# Altium footprint library CN_IDC.PcbLib: 43 footprints (part 2 of 3)
Each footprint in its own frame and in the unit in brackets; x right, y up, seen from the top. Pads: shape width x height; smd on the part's side, far side on the other; paste and mask are expansions set on the pad; w line width, h text height; cw(c..) or ccw(c..) is an arc to the next point about the centre after c.
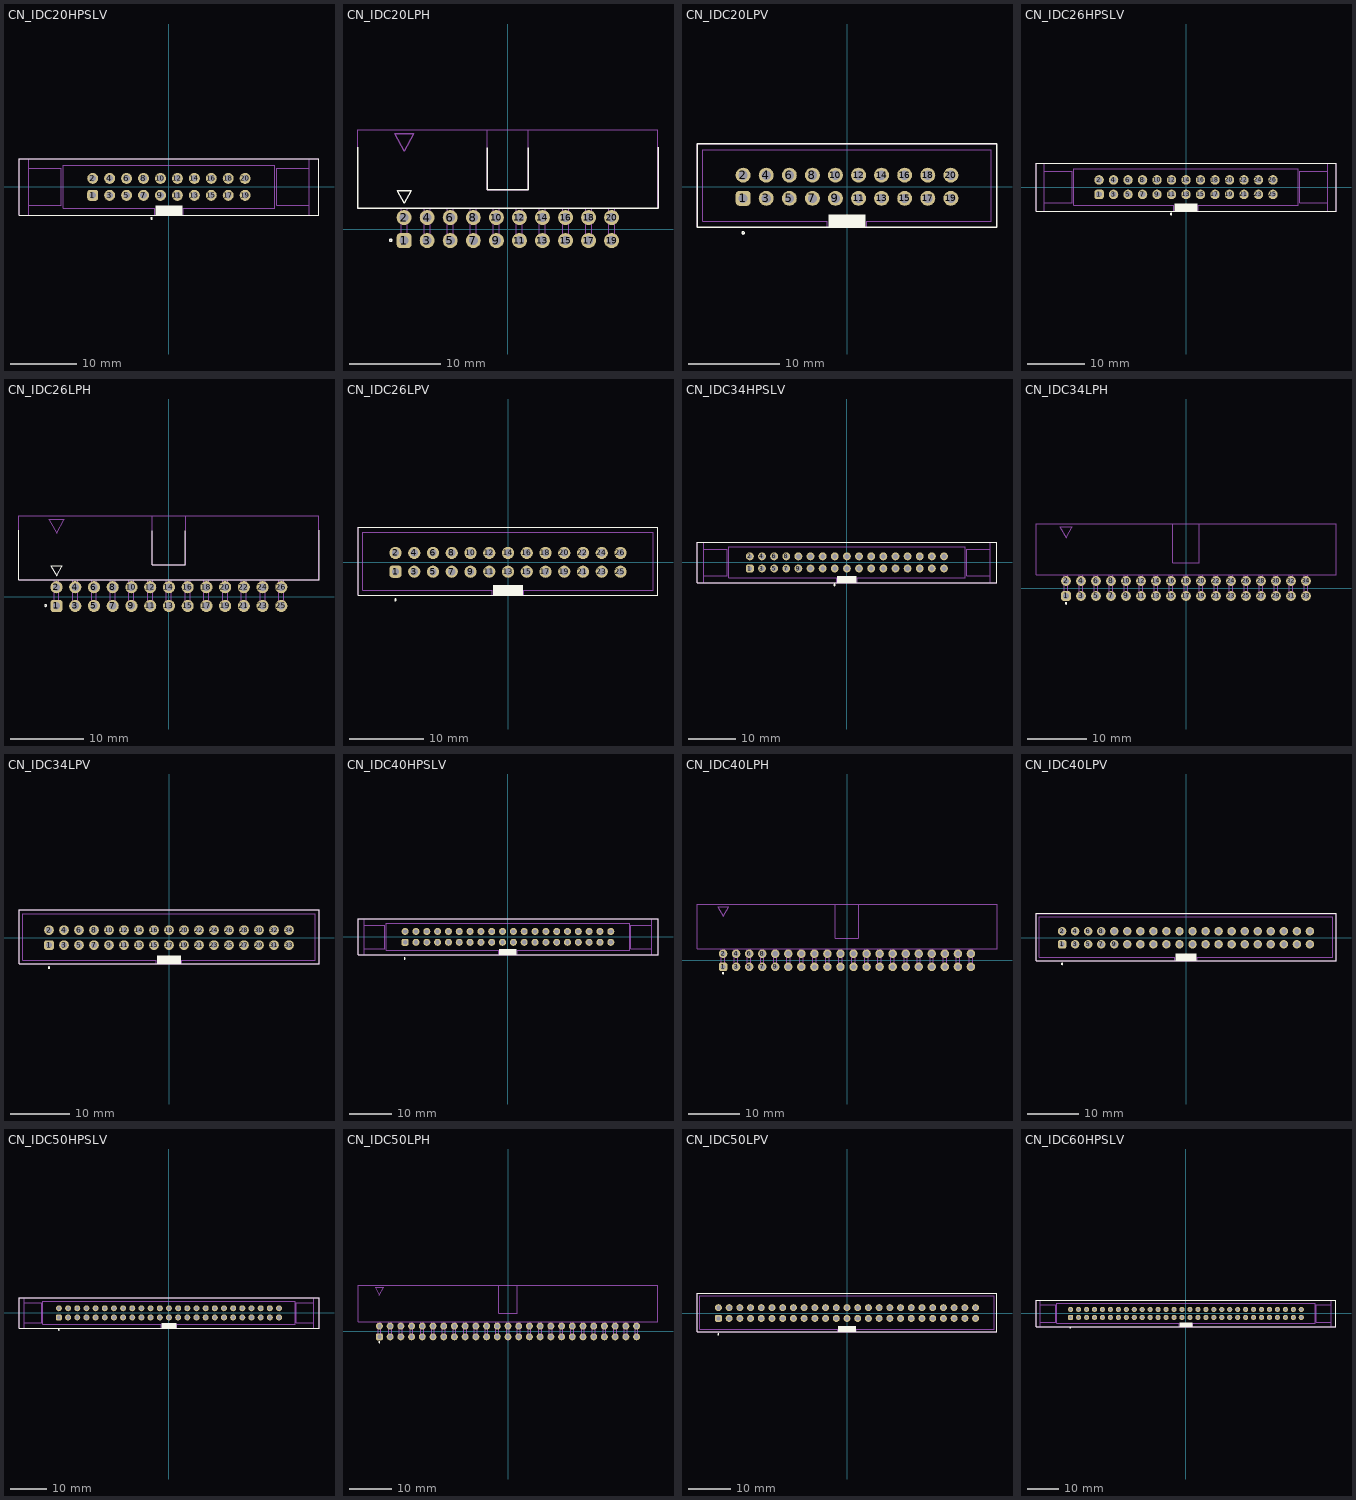
[diagram p1: the footprints below, top view; thin cyan lines are the x and y axes]

## CN_IDC20HPSLV [mm] "Connector IDC High Profile Male Header, Thru-Hole; 20pin; Vertical; R2.54 mm; Body 17.78 x 9.2 x 9.45 mm (LxWxH)"
height 9.45
pads (20):
  rrect50% 1.65x1.65 hole 1: 1(-11.43,-1.27)
  round 1.65 hole 1: 2(-11.43,1.27) 3(-8.89,-1.27) 4(-8.89,1.27) 5(-6.35,-1.27) 6(-6.35,1.27) 7(-3.81,-1.27) 8(-3.81,1.27) 9(-1.27,-1.27) 10(-1.27,1.27) 11(1.27,-1.27) 12(1.27,1.27) 13(3.81,-1.27) 14(3.81,1.27) 15(6.35,-1.27) 16(6.35,1.27) 17(8.89,-1.27) 18(8.89,1.27) 19(11.43,-1.27) 20(11.43,1.27)
Top Overlay:
  circle w0.15: c-2.6,-4.725 r0.125
  rectangle: -2.05,-4.25 2.05,-2.825
  lines w0.15: -22.492,-4.25 -22.492,4.2 22.508,4.2 22.508,-4.25 -22.492,-4.25
Mechanical 13:
  lines w0.1: -21.065,-4.25 -21.065,4.2 ; -21.065,-2.775 -16.165,-2.775 -16.165,2.775 -21.065,2.775 ; 21.065,-4.25 21.065,4.2 ; 21.065,-2.775 16.165,-2.775 16.165,2.775 21.065,2.775
  lines w0.102: -2.159,-4.25 -2.159,-3.2 -15.875,-3.2 -15.875,3.25 15.875,3.25 15.875,-3.2 2.159,-3.2 2.159,-4.25 ; -22.492,-4.25 -22.492,4.2 22.508,4.2 22.508,-4.25 -22.492,-4.25
  text "19" at 12.63,-2.02 h1.5
  text "20" at 12.63,0.52 h1.5
  text "1" at -13.13,-2.02 h1.5
  text "2" at -13.63,0.52 h1.5
3D body: height 14, standoff -2.9, extent 8.59,0.97 9.19,1.57
3D body: height 14, standoff -2.9, extent 8.59,-1.57 9.19,-0.97
3D body: height 14, standoff -2.9, extent 6.05,-1.57 6.65,-0.97
3D body: height 14, standoff -2.9, extent 6.05,0.97 6.65,1.57
3D body: height 14, standoff -2.9, extent -9.19,0.97 -8.59,1.57
3D body: height 14, standoff -2.9, extent -9.19,-1.57 -8.59,-0.97
3D body: height 14, standoff -2.9, extent 0.97,0.97 1.57,1.57
3D body: height 14, standoff -2.9, extent 0.97,-1.57 1.57,-0.97
3D body: height 14, standoff -2.9, extent -1.57,-1.57 -0.97,-0.97
3D body: height 14, standoff -2.9, extent -1.57,0.97 -0.97,1.57
3D body: height 14, standoff -2.9, extent -6.65,-1.57 -6.05,-0.97
3D body: height 14, standoff -2.9, extent -6.65,0.97 -6.05,1.57
3D body: height 14, standoff -2.9, extent -4.11,0.97 -3.51,1.57
3D body: height 14, standoff -2.9, extent -4.11,-1.57 -3.51,-0.97
3D body: height 23.59, standoff -2.91, extent -22.492,-4.25 22.508,4.25
3D body: height 14, standoff -2.9, extent 3.51,-1.57 4.11,-0.97
3D body: height 14, standoff -2.9, extent 3.51,0.97 4.11,1.57

## CN_IDC20LPH [mm] "Connector IDC Low Profile Male Header, Thru-Hole; 20 pin; Horizontal; R2.54 mm; Body 27.94 x 9.45 x 9.2 mm (LxWxH)"
height 9.2
pads (20):
  rrect50% 1.65x1.65 hole 1: 1(-11.43,-1.27)
  round 1.65 hole 1: 2(-11.43,1.27) 3(-8.89,-1.27) 4(-8.89,1.27) 5(-6.35,-1.27) 6(-6.35,1.27) 7(-3.81,-1.27) 8(-3.81,1.27) 9(-1.27,-1.27) 10(-1.27,1.27) 11(1.27,-1.27) 12(1.27,1.27) 13(3.81,-1.27) 14(3.81,1.27) 15(6.35,-1.27) 16(6.35,1.27) 17(8.89,-1.27) 18(8.89,1.27) 19(11.43,-1.27) 20(11.43,1.27)
Top Overlay:
  circle w0.15: c-12.9,-1.225 r0.125
  lines w0.15: -16.51,9 -16.51,2.286 16.535,2.286 16.535,9 ; -2.25,8.943 -2.25,4.318 2.225,4.318 2.225,8.943 ; -12.2,4.2 -10.65,4.2 -11.425,2.85 -12.2,4.2
Mechanical 13:
  lines w0.1: -11.76,2.286 -11.76,-1.6 -11.1,-1.6 -11.1,2.286 ; -9.22,2.286 -9.22,-1.6 -8.56,-1.6 -8.56,2.286 ; -6.68,2.286 -6.68,-1.6 -6.02,-1.6 -6.02,2.286 ; -4.14,2.286 -4.14,-1.6 -3.48,-1.6 -3.48,2.286 ; -2.25,4.318 2.225,4.318 ; -1.6,2.286 -1.6,-1.6 -0.94,-1.6 -0.94,2.286 ; 0.94,2.286 0.94,-1.6 1.6,-1.6 1.6,2.286 ; 3.48,2.286 3.48,-1.6 4.14,-1.6 4.14,2.286 ; 6.02,2.286 6.02,-1.6 6.68,-1.6 6.68,2.286 ; 8.56,2.286 8.56,-1.6 9.22,-1.6 9.22,2.286 ; 11.1,2.286 11.1,-1.6 11.76,-1.6 11.76,2.286
  lines w0.102: -2.25,4.318 -2.25,10.922 ; 2.25,4.343 2.25,10.922 ; -16.51,2.311 16.51,2.311 16.51,10.922 -16.51,10.922 -16.51,2.311
  lines w0.15: -12.475,10.472 -10.375,10.472 -11.425,8.597 -12.475,10.472
  text "1" at -13.13,-2.02 h1.5
  text "2" at -13.63,0.52 h1.5
  text "19" at 12.63,-2.02 h1.5
  text "20" at 12.63,0.52 h1.5
3D body: height 9.2, standoff -3.2, extent -16.51,-1.598 16.51,10.922

## CN_IDC20LPV [mm] "Connector IDC Low Profile Male Header, Thru-Hole; 20 pin; Vertical; R2.54 mm; Body 33.0 x 9.2 x 9.45 mm (LxWxH)"
height 9.45
pads (20):
  rrect50% 1.65x1.65 hole 1: 1(-11.43,-1.27)
  round 1.65 hole 1: 2(-11.43,1.27) 3(-8.89,-1.27) 4(-8.89,1.27) 5(-6.35,-1.27) 6(-6.35,1.27) 7(-3.81,-1.27) 8(-3.81,1.27) 9(-1.27,-1.27) 10(-1.27,1.27) 11(1.27,-1.27) 12(1.27,1.27) 13(3.81,-1.27) 14(3.81,1.27) 15(6.35,-1.27) 16(6.35,1.27) 17(8.89,-1.27) 18(8.89,1.27) 19(11.43,-1.27) 20(11.43,1.27)
Top Overlay:
  circle w0.15: c-11.428,-5.08 r0.125
  rectangle: -2.05,-4.473 2.05,-3.048
  lines w0.15: -16.51,-4.468 16.51,-4.468 16.51,4.711 -16.51,4.711 -16.51,-4.468
Mechanical 13:
  lines w0.102: -2.159,-4.465 -2.159,-3.805 -15.875,-3.805 -15.875,4.048 15.875,4.048 15.875,-3.805 2.159,-3.805 2.159,-4.465 ; -16.51,-4.465 -16.51,4.709 16.51,4.709 16.51,-4.465 -16.51,-4.465
  text "2" at -13.63,0.52 h1.5
  text "1" at -13.13,-2.02 h1.5
  text "19" at 12.63,-2.02 h1.5
  text "20" at 12.63,0.52 h1.5
3D body: height 9.4, standoff -3.25, extent -16.51,-4.45 16.51,4.75

## CN_IDC26HPSLV [mm] "Connector IDC High Profile Male Header, Thru-Hole; 26pin; Vertical; R2.54 mm; Body 17.78 x 9.2 x 9.45 mm (LxWxH)"
height 9.45
pads (26):
  rrect50% 1.65x1.65 hole 1: 1(-15.24,-1.27)
  round 1.65 hole 1: 2(-15.24,1.27) 3(-12.7,-1.27) 4(-12.7,1.27) 5(-10.16,-1.27) 6(-10.16,1.27) 7(-7.62,-1.27) 8(-7.62,1.27) 9(-5.08,-1.27) 10(-5.08,1.27) 11(-2.54,-1.27) 12(-2.54,1.27) 13(0,-1.27) 14(0,1.27) 15(2.54,-1.27) 16(2.54,1.27) 17(5.08,-1.27) 18(5.08,1.27) 19(7.62,-1.27) 20(7.62,1.27) 21(10.16,-1.27) 22(10.16,1.27) 23(12.7,-1.27) 24(12.7,1.27) 25(15.24,-1.27) 26(15.24,1.27)
Top Overlay:
  circle w0.15: c-2.6,-4.725 r0.125
  rectangle: -2.05,-4.25 2.05,-2.825
  lines w0.15: -26.302,-4.25 26.298,-4.25 26.298,4.2 -26.302,4.2 -26.302,-4.25
Mechanical 13:
  lines w0.1: -24.875,-4.25 -24.875,4.2 ; -24.875,-2.775 -19.975,-2.775 -19.975,2.775 -24.875,2.775 ; 24.875,-4.25 24.875,4.2 ; 24.875,-2.775 19.975,-2.775 19.975,2.775 24.875,2.775
  lines w0.102: -2.159,-4.25 -2.159,-3.2 -19.685,-3.2 -19.685,3.25 19.685,3.25 19.685,-3.2 2.159,-3.2 2.159,-4.25 ; -26.302,-4.25 26.298,-4.25 26.298,4.2 -26.302,4.2 -26.302,-4.25
  text "2" at -17.44,0.52 h1.5
  text "1" at -16.94,-2.02 h1.5
  text "26" at 16.44,0.52 h1.5
  text "25" at 16.44,-2.02 h1.5
3D body: height 14, standoff -2.9, extent 12.4,0.97 13,1.57
3D body: height 14, standoff -2.9, extent 12.4,-1.57 13,-0.97
3D body: height 14, standoff -2.9, extent 9.86,-1.57 10.46,-0.97
3D body: height 14, standoff -2.9, extent 9.86,0.97 10.46,1.57
3D body: height 14, standoff -2.9, extent 7.32,-1.57 7.92,-0.97
3D body: height 14, standoff -2.9, extent 7.32,0.97 7.92,1.57
3D body: height 14, standoff -2.9, extent -0.3,0.97 0.3,1.57
3D body: height 14, standoff -2.9, extent -0.3,-1.57 0.3,-0.97
3D body: height 23.59, standoff -2.91, extent -26.302,-4.25 26.298,4.25
3D body: height 14, standoff -2.9, extent -7.92,-1.57 -7.32,-0.97
3D body: height 14, standoff -2.9, extent -7.92,0.97 -7.32,1.57
3D body: height 14, standoff -2.9, extent -10.46,0.97 -9.86,1.57
3D body: height 14, standoff -2.9, extent -10.46,-1.57 -9.86,-0.97
3D body: height 14, standoff -2.9, extent -5.38,0.97 -4.78,1.57
3D body: height 14, standoff -2.9, extent -5.38,-1.57 -4.78,-0.97
3D body: height 14, standoff -2.9, extent -2.84,-1.57 -2.24,-0.97
3D body: height 14, standoff -2.9, extent -2.84,0.97 -2.24,1.57
3D body: height 14, standoff -2.9, extent -13,-1.57 -12.4,-0.97
3D body: height 14, standoff -2.9, extent -13,0.97 -12.4,1.57
3D body: height 14, standoff -2.9, extent 2.24,0.97 2.84,1.57
3D body: height 14, standoff -2.9, extent 2.24,-1.57 2.84,-0.97
3D body: height 14, standoff -2.9, extent 4.78,-1.57 5.38,-0.97
3D body: height 14, standoff -2.9, extent 4.78,0.97 5.38,1.57

## CN_IDC26LPH [mm] "Connector IDC Low Profile Male Header, Thru-Hole; 26 pin; Horizontal; R2.54 mm; Body 27.94 x 9.45 x 9.2 mm (LxWxH)"
height 9.2
pads (26):
  rrect50% 1.65x1.65 hole 1: 1(-15.24,-1.27)
  round 1.65 hole 1: 2(-15.24,1.27) 3(-12.7,-1.27) 4(-12.7,1.27) 5(-10.16,-1.27) 6(-10.16,1.27) 7(-7.62,-1.27) 8(-7.62,1.27) 9(-5.08,-1.27) 10(-5.08,1.27) 11(-2.54,-1.27) 12(-2.54,1.27) 13(0,-1.27) 14(0,1.27) 15(2.54,-1.27) 16(2.54,1.27) 17(5.08,-1.27) 18(5.08,1.27) 19(7.62,-1.27) 20(7.62,1.27) 21(10.16,-1.27) 22(10.16,1.27) 23(12.7,-1.27) 24(12.7,1.27) 25(15.24,-1.27) 26(15.24,1.27)
Top Overlay:
  circle w0.15: c-16.71,-1.225 r0.125
  lines w0.15: -20.32,9 -20.32,2.286 20.345,2.286 20.345,9 ; -2.25,8.943 -2.25,4.318 2.225,4.318 2.225,8.943 ; -16.01,4.2 -15.235,2.85 -14.46,4.2 -16.01,4.2
Mechanical 13:
  lines w0.1: -15.57,2.286 -15.57,-1.6 -14.91,-1.6 -14.91,2.286 ; -13.03,2.286 -13.03,-1.6 -12.37,-1.6 -12.37,2.286 ; -10.49,2.286 -10.49,-1.6 -9.83,-1.6 -9.83,2.286 ; -7.95,2.286 -7.95,-1.6 -7.29,-1.6 -7.29,2.286 ; -5.41,2.286 -5.41,-1.6 -4.75,-1.6 -4.75,2.286 ; -2.87,2.286 -2.87,-1.6 -2.21,-1.6 -2.21,2.286 ; -2.25,4.318 2.225,4.318 ; -0.33,2.286 -0.33,-1.6 0.33,-1.6 0.33,2.286 ; 2.21,2.286 2.21,-1.6 2.87,-1.6 2.87,2.286 ; 4.75,2.286 4.75,-1.6 5.41,-1.6 5.41,2.286 ; 7.29,2.286 7.29,-1.6 7.95,-1.6 7.95,2.286 ; 9.83,2.286 9.83,-1.6 10.49,-1.6 10.49,2.286 ; 12.37,2.286 12.37,-1.6 13.03,-1.6 13.03,2.286 ; 14.91,2.286 14.91,-1.6 15.57,-1.6 15.57,2.286
  lines w0.102: -2.25,4.318 -2.25,10.922 ; 2.25,4.343 2.25,10.922 ; -20.32,2.311 -20.32,10.922 20.32,10.922 20.32,2.311 -20.32,2.311
  lines w0.15: -16.285,10.472 -15.235,8.597 -14.185,10.472 -16.285,10.472
  text "26" at 16.44,0.52 h1.5
  text "25" at 16.44,-2.02 h1.5
  text "2" at -17.44,0.52 h1.5
  text "1" at -16.94,-2.02 h1.5
3D body: height 9.2, standoff -3.2, extent -20.32,-1.598 20.32,10.922

## CN_IDC26LPV [mm] "Connector IDC Low Profile Male Header, Thru-Hole; 20 pin; Vertical; R2.54 mm; Body 40.6 x 9.2 x 9.45 mm (LxWxH)"
height 9.45
pads (26):
  rrect50% 1.65x1.65 hole 1: 1(-15.24,-1.27)
  round 1.65 hole 1: 2(-15.24,1.27) 3(-12.7,-1.27) 4(-12.7,1.27) 5(-10.16,-1.27) 6(-10.16,1.27) 7(-7.62,-1.27) 8(-7.62,1.27) 9(-5.08,-1.27) 10(-5.08,1.27) 11(-2.54,-1.27) 12(-2.54,1.27) 13(0,-1.27) 14(0,1.27) 15(2.54,-1.27) 16(2.54,1.27) 17(5.08,-1.27) 18(5.08,1.27) 19(7.62,-1.27) 20(7.62,1.27) 21(10.16,-1.27) 22(10.16,1.27) 23(12.7,-1.27) 24(12.7,1.27) 25(15.24,-1.27) 26(15.24,1.27)
Top Overlay:
  circle w0.15: c-15.238,-5.08 r0.125
  rectangle: -2.05,-4.473 2.05,-3.048
  lines w0.15: -20.32,-4.468 -20.32,4.745 20.32,4.745 20.32,-4.468 -20.32,-4.468
Mechanical 13:
  lines w0.102: -2.159,-4.465 -2.159,-3.805 -19.685,-3.805 -19.685,4.082 19.685,4.082 19.685,-3.805 2.159,-3.805 2.159,-4.465 ; -20.32,-4.465 20.32,-4.465 20.32,4.742 -20.32,4.742 -20.32,-4.465
  text "26" at 16.44,0.52 h1.5
  text "25" at 16.44,-2.02 h1.5
  text "1" at -16.94,-2.02 h1.5
  text "2" at -17.44,0.52 h1.5
3D body: height 9.4, standoff -3.25, extent -20.32,-4.45 20.32,4.75

## CN_IDC34HPSLV [mm] "Connector IDC High Profile Male Header, Thru-Hole; 34pin; Vertical; R2.54 mm; Body 17.78 x 9.2 x 9.45 mm (LxWxH)"
height 9.45
pads (34):
  rrect50% 1.65x1.65 hole 1: 1(-20.32,-1.27)
  round 1.65 hole 1: 2(-20.32,1.27) 3(-17.78,-1.27) 4(-17.78,1.27) 5(-15.24,-1.27) 6(-15.24,1.27) 7(-12.7,-1.27) 8(-12.7,1.27) 9(-10.16,-1.27) 10(-10.16,1.27) 11(-7.62,-1.27) 12(-7.62,1.27) 13(-5.08,-1.27) 14(-5.08,1.27) 15(-2.54,-1.27) 16(-2.54,1.27) 17(0,-1.27) 18(0,1.27) 19(2.54,-1.27) 20(2.54,1.27) 21(5.08,-1.27) 22(5.08,1.27) 23(7.62,-1.27) 24(7.62,1.27) 25(10.16,-1.27) 26(10.16,1.27) 27(12.7,-1.27) 28(12.7,1.27) 29(15.24,-1.27) 30(15.24,1.27) 31(17.78,-1.27) 32(17.78,1.27) 33(20.32,-1.27) 34(20.32,1.27)
Top Overlay:
  circle w0.15: c-2.6,-4.725 r0.125
  rectangle: -2.05,-4.25 2.05,-2.825
  lines w0.15: -31.382,-4.25 -31.382,4.2 31.418,4.2 31.418,-4.25 -31.382,-4.25
Mechanical 13:
  lines w0.1: -29.955,-4.25 -29.955,4.2 ; -29.955,-2.775 -25.055,-2.775 -25.055,2.775 -29.955,2.775 ; 29.955,-4.25 29.955,4.2 ; 29.955,-2.775 25.055,-2.775 25.055,2.775 29.955,2.775
  lines w0.102: -2.159,-4.25 -2.159,-3.2 -24.765,-3.2 -24.765,3.25 24.765,3.25 24.765,-3.2 2.159,-3.2 2.159,-4.25 ; -31.382,-4.25 -31.382,4.2 31.418,4.2 31.418,-4.25 -31.382,-4.25
  text "33" at 21.52,-2.02 h1.5
  text "34" at 21.52,0.52 h1.5
  text "1" at -22.02,-2.02 h1.5
  text "2" at -22.52,0.52 h1.5
3D body: height 14, standoff -2.9, extent 4.78,0.97 5.38,1.57
3D body: height 14, standoff -2.9, extent 4.78,-1.57 5.38,-0.97
3D body: height 14, standoff -2.9, extent 2.24,-1.57 2.84,-0.97
3D body: height 14, standoff -2.9, extent 2.24,0.97 2.84,1.57
3D body: height 14, standoff -2.9, extent -13,0.97 -12.4,1.57
3D body: height 14, standoff -2.9, extent -13,-1.57 -12.4,-0.97
3D body: height 14, standoff -2.9, extent -2.84,0.97 -2.24,1.57
3D body: height 14, standoff -2.9, extent -2.84,-1.57 -2.24,-0.97
3D body: height 14, standoff -2.9, extent -5.38,-1.57 -4.78,-0.97
3D body: height 14, standoff -2.9, extent -5.38,0.97 -4.78,1.57
3D body: height 14, standoff -2.9, extent -10.46,-1.57 -9.86,-0.97
3D body: height 14, standoff -2.9, extent -10.46,0.97 -9.86,1.57
3D body: height 14, standoff -2.9, extent -7.92,0.97 -7.32,1.57
3D body: height 14, standoff -2.9, extent -7.92,-1.57 -7.32,-0.97
3D body: height 23.59, standoff -2.91, extent -31.382,-4.25 31.418,4.25
3D body: height 14, standoff -2.9, extent -0.3,-1.57 0.3,-0.97
3D body: height 14, standoff -2.9, extent -0.3,0.97 0.3,1.57
3D body: height 14, standoff -2.9, extent 7.32,0.97 7.92,1.57
3D body: height 14, standoff -2.9, extent 7.32,-1.57 7.92,-0.97
3D body: height 14, standoff -2.9, extent 9.86,0.97 10.46,1.57
3D body: height 14, standoff -2.9, extent 9.86,-1.57 10.46,-0.97
3D body: height 14, standoff -2.9, extent 12.4,-1.57 13,-0.97
3D body: height 14, standoff -2.9, extent 12.4,0.97 13,1.57
3D body: height 14, standoff -2.9, extent -15.54,0.97 -14.94,1.57
3D body: height 14, standoff -2.9, extent -15.54,-1.57 -14.94,-0.97
3D body: height 14, standoff -2.9, extent -18.08,-1.57 -17.48,-0.97
3D body: height 14, standoff -2.9, extent -18.08,0.97 -17.48,1.57
3D body: height 14, standoff -2.9, extent 17.48,0.97 18.08,1.57
3D body: height 14, standoff -2.9, extent 17.48,-1.57 18.08,-0.97
3D body: height 14, standoff -2.9, extent 14.94,-1.57 15.54,-0.97
3D body: height 14, standoff -2.9, extent 14.94,0.97 15.54,1.57

## CN_IDC34LPH [mm] "Connector IDC Low Profile Male Header, Thru-Hole; 34 pin; Hertical; R2.54 mm; Body 50.8 x 9.2 x 8.6 mm (LxWxH)"
height 8.6
pads (34):
  rrect50% 1.65x1.65 hole 1: 1(-20.32,-1.27)
  round 1.65 hole 1: 2(-20.32,1.27) 3(-17.78,-1.27) 4(-17.78,1.27) 5(-15.24,-1.27) 6(-15.24,1.27) 7(-12.7,-1.27) 8(-12.7,1.27) 9(-10.16,-1.27) 10(-10.16,1.27) 11(-7.62,-1.27) 12(-7.62,1.27) 13(-5.08,-1.27) 14(-5.08,1.27) 15(-2.54,-1.27) 16(-2.54,1.27) 17(0,-1.27) 18(0,1.27) 19(2.54,-1.27) 20(2.54,1.27) 21(5.08,-1.27) 22(5.08,1.27) 23(7.62,-1.27) 24(7.62,1.27) 25(10.16,-1.27) 26(10.16,1.27) 27(12.7,-1.27) 28(12.7,1.27) 29(15.24,-1.27) 30(15.24,1.27) 31(17.78,-1.27) 32(17.78,1.27) 33(20.32,-1.27) 34(20.32,1.27)
Top Overlay:
  circle w0.15: c-20.325,-2.5 r0.125
Mechanical 13:
  lines w0.1: -20.65,2.286 -20.65,-1.6 -19.99,-1.6 -19.99,2.286 ; -18.11,2.286 -18.11,-1.6 -17.45,-1.6 -17.45,2.286 ; -15.57,2.286 -15.57,-1.6 -14.91,-1.6 -14.91,2.286 ; -13.03,2.286 -13.03,-1.6 -12.37,-1.6 -12.37,2.286 ; -10.49,2.286 -10.49,-1.6 -9.83,-1.6 -9.83,2.286 ; -7.95,2.286 -7.95,-1.6 -7.29,-1.6 -7.29,2.286 ; -5.41,2.286 -5.41,-1.6 -4.75,-1.6 -4.75,2.286 ; -2.87,2.286 -2.87,-1.6 -2.21,-1.6 -2.21,2.286 ; -2.25,4.318 2.225,4.318 ; -0.33,2.286 -0.33,-1.6 0.33,-1.6 0.33,2.286 ; 2.21,2.286 2.21,-1.6 2.87,-1.6 2.87,2.286 ; 4.75,2.286 4.75,-1.6 5.41,-1.6 5.41,2.286 ; 7.29,2.286 7.29,-1.6 7.95,-1.6 7.95,2.286 ; 9.83,2.286 9.83,-1.6 10.49,-1.6 10.49,2.286 ; 12.37,2.286 12.37,-1.6 13.03,-1.6 13.03,2.286 ; 14.91,2.286 14.91,-1.6 15.57,-1.6 15.57,2.286 ; 17.45,2.286 17.45,-1.6 18.11,-1.6 18.11,2.286 ; 19.99,2.286 19.99,-1.6 20.65,-1.6 20.65,2.286
  lines w0.102: -2.25,4.318 -2.25,10.922 ; 2.25,4.343 2.25,10.922 ; -25.4,2.286 25.4,2.286 25.4,10.922 -25.4,10.922 -25.4,2.286
  lines w0.15: -21.365,10.472 -19.265,10.472 -20.315,8.597 -21.365,10.472
  text "2" at -22.52,0.52 h1.5
  text "1" at -22.02,-2.02 h1.5
  text "33" at 21.52,-2.02 h1.5
  text "34" at 21.52,0.52 h1.5
3D body: height 9.2, standoff -3.2, extent -25.4,-1.598 25.4,10.922

## CN_IDC34LPV [mm] "Connector IDC Low Profile Male Header, Thru-Hole; 34 pin; Vertical; R2.54 mm; Body 50.8 x 9.2 x 9.45 mm (LxWxH)"
height 9.45
pads (34):
  rrect50% 1.65x1.65 hole 1: 1(-20.32,-1.27)
  round 1.65 hole 1: 2(-20.32,1.27) 3(-17.78,-1.27) 4(-17.78,1.27) 5(-15.24,-1.27) 6(-15.24,1.27) 7(-12.7,-1.27) 8(-12.7,1.27) 9(-10.16,-1.27) 10(-10.16,1.27) 11(-7.62,-1.27) 12(-7.62,1.27) 13(-5.08,-1.27) 14(-5.08,1.27) 15(-2.54,-1.27) 16(-2.54,1.27) 17(0,-1.27) 18(0,1.27) 19(2.54,-1.27) 20(2.54,1.27) 21(5.08,-1.27) 22(5.08,1.27) 23(7.62,-1.27) 24(7.62,1.27) 25(10.16,-1.27) 26(10.16,1.27) 27(12.7,-1.27) 28(12.7,1.27) 29(15.24,-1.27) 30(15.24,1.27) 31(17.78,-1.27) 32(17.78,1.27) 33(20.32,-1.27) 34(20.32,1.27)
Top Overlay:
  circle w0.15: c-20.318,-5.08 r0.125
  rectangle: -2.05,-4.473 2.05,-3.048
  lines w0.15: -25.4,-4.46 25.4,-4.46 25.4,4.745 -25.4,4.745 -25.4,-4.46
Mechanical 13:
  lines w0.102: -2.159,-4.46 -2.159,-3.797 -24.765,-3.797 -24.765,4.082 24.765,4.082 24.765,-3.797 2.159,-3.797 2.159,-4.46 ; -25.4,-4.457 -25.4,4.742 25.4,4.742 25.4,-4.457 -25.4,-4.457
  text "2" at -22.52,0.52 h1.5
  text "1" at -22.02,-2.02 h1.5
  text "33" at 21.52,-2.02 h1.5
  text "34" at 21.52,0.52 h1.5
3D body: height 9.4, standoff -3.25, extent -25.4,-4.45 25.4,4.75

## CN_IDC40HPSLV [mm] "Connector IDC High Profile Male Header, Thru-Hole; 40pin; Vertical; R2.54 mm; Body 17.78 x 9.2 x 9.45 mm (LxWxH)"
height 9.45
pads (40):
  rrect50% 1.65x1.65 hole 1: 1(-24.13,-1.27)
  round 1.65 hole 1: 2(-24.13,1.27) 3(-21.59,-1.27) 4(-21.59,1.27) 5(-19.05,-1.27) 6(-19.05,1.27) 7(-16.51,-1.27) 8(-16.51,1.27) 9(-13.97,-1.27) 10(-13.97,1.27) 11(-11.43,-1.27) 12(-11.43,1.27) 13(-8.89,-1.27) 14(-8.89,1.27) 15(-6.35,-1.27) 16(-6.35,1.27) 17(-3.81,-1.27) 18(-3.81,1.27) 19(-1.27,-1.27) 20(-1.27,1.27) 21(1.27,-1.27) 22(1.27,1.27) 23(3.81,-1.27) 24(3.81,1.27) 25(6.35,-1.27) 26(6.35,1.27) 27(8.89,-1.27) 28(8.89,1.27) 29(11.43,-1.27) 30(11.43,1.27) 31(13.97,-1.27) 32(13.97,1.27) 33(16.51,-1.27) 34(16.51,1.27) 35(19.05,-1.27) 36(19.05,1.27) 37(21.59,-1.27) 38(21.59,1.27) 39(24.13,-1.27) 40(24.13,1.27)
Top Overlay:
  circle w0.15: c-24.255,-5.08 r0.125
  rectangle: -2.05,-4.25 2.05,-2.825
  lines w0.15: -35.192,-4.25 35.208,-4.25 35.208,4.2 -35.192,4.2 -35.192,-4.25
Mechanical 13:
  lines w0.1: -33.765,-4.25 -33.765,4.2 ; -33.765,-2.775 -28.865,-2.775 -28.865,2.775 -33.765,2.775 ; 33.765,-4.25 33.765,4.2 ; 33.765,-2.775 28.865,-2.775 28.865,2.775 33.765,2.775
  lines w0.102: -2.159,-4.25 -2.159,-3.2 -28.575,-3.2 -28.575,3.25 28.575,3.25 28.575,-3.2 2.159,-3.2 2.159,-4.25 ; -35.192,-4.25 35.208,-4.25 35.208,4.2 -35.192,4.2 -35.192,-4.25
  text "2" at -26.33,0.52 h1.5
  text "1" at -25.83,-2.02 h1.5
  text "40" at 25.33,0.52 h1.5
  text "39" at 25.33,-2.02 h1.5
3D body: height 14, standoff -2.9, extent 16.21,-1.57 16.81,-0.97
3D body: height 14, standoff -2.9, extent 16.21,0.97 16.81,1.57
3D body: height 14, standoff -2.9, extent 21.29,0.97 21.89,1.57
3D body: height 14, standoff -2.9, extent 21.29,-1.57 21.89,-0.97
3D body: height 14, standoff -2.9, extent 18.75,-1.57 19.35,-0.97
3D body: height 14, standoff -2.9, extent 18.75,0.97 19.35,1.57
3D body: height 14, standoff -2.9, extent 11.13,0.97 11.73,1.57
3D body: height 14, standoff -2.9, extent 11.13,-1.57 11.73,-0.97
3D body: height 14, standoff -2.9, extent 13.67,-1.57 14.27,-0.97
3D body: height 14, standoff -2.9, extent 13.67,0.97 14.27,1.57
3D body: height 14, standoff -2.9, extent -21.89,0.97 -21.29,1.57
3D body: height 14, standoff -2.9, extent -21.89,-1.57 -21.29,-0.97
3D body: height 14, standoff -2.9, extent -19.35,-1.57 -18.75,-0.97
3D body: height 14, standoff -2.9, extent -19.35,0.97 -18.75,1.57
3D body: height 14, standoff -2.9, extent 8.59,0.97 9.19,1.57
3D body: height 14, standoff -2.9, extent 8.59,-1.57 9.19,-0.97
3D body: height 14, standoff -2.9, extent 6.05,-1.57 6.65,-0.97
3D body: height 14, standoff -2.9, extent 6.05,0.97 6.65,1.57
3D body: height 14, standoff -2.9, extent 3.51,-1.57 4.11,-0.97
3D body: height 14, standoff -2.9, extent 3.51,0.97 4.11,1.57
3D body: height 14, standoff -2.9, extent -4.11,0.97 -3.51,1.57
3D body: height 14, standoff -2.9, extent -4.11,-1.57 -3.51,-0.97
3D body: height 23.59, standoff -2.91, extent -35.192,-4.25 35.208,4.25
3D body: height 14, standoff -2.9, extent -11.73,-1.57 -11.13,-0.97
3D body: height 14, standoff -2.9, extent -11.73,0.97 -11.13,1.57
3D body: height 14, standoff -2.9, extent -14.27,0.97 -13.67,1.57
3D body: height 14, standoff -2.9, extent -14.27,-1.57 -13.67,-0.97
3D body: height 14, standoff -2.9, extent -9.19,0.97 -8.59,1.57
3D body: height 14, standoff -2.9, extent -9.19,-1.57 -8.59,-0.97
3D body: height 14, standoff -2.9, extent -6.65,-1.57 -6.05,-0.97
3D body: height 14, standoff -2.9, extent -6.65,0.97 -6.05,1.57
3D body: height 14, standoff -2.9, extent -16.81,-1.57 -16.21,-0.97
3D body: height 14, standoff -2.9, extent -16.81,0.97 -16.21,1.57
3D body: height 14, standoff -2.9, extent -1.57,0.97 -0.97,1.57
3D body: height 14, standoff -2.9, extent -1.57,-1.57 -0.97,-0.97
3D body: height 14, standoff -2.9, extent 0.97,-1.57 1.57,-0.97
3D body: height 14, standoff -2.9, extent 0.97,0.97 1.57,1.57

## CN_IDC40LPH [mm] "Connector IDC Low Profile Male Header, Thru-Hole; 40 pin; Hertical; R2.54 mm; Body 50.8 x 9.2 x 8.6 mm (LxWxH)"
height 8.6
pads (40):
  rrect50% 1.65x1.65 hole 1: 1(-24.13,-1.27)
  round 1.65 hole 1: 2(-24.13,1.27) 3(-21.59,-1.27) 4(-21.59,1.27) 5(-19.05,-1.27) 6(-19.05,1.27) 7(-16.51,-1.27) 8(-16.51,1.27) 9(-13.97,-1.27) 10(-13.97,1.27) 11(-11.43,-1.27) 12(-11.43,1.27) 13(-8.89,-1.27) 14(-8.89,1.27) 15(-6.35,-1.27) 16(-6.35,1.27) 17(-3.81,-1.27) 18(-3.81,1.27) 19(-1.27,-1.27) 20(-1.27,1.27) 21(1.27,-1.27) 22(1.27,1.27) 23(3.81,-1.27) 24(3.81,1.27) 25(6.35,-1.27) 26(6.35,1.27) 27(8.89,-1.27) 28(8.89,1.27) 29(11.43,-1.27) 30(11.43,1.27) 31(13.97,-1.27) 32(13.97,1.27) 33(16.51,-1.27) 34(16.51,1.27) 35(19.05,-1.27) 36(19.05,1.27) 37(21.59,-1.27) 38(21.59,1.27) 39(24.13,-1.27) 40(24.13,1.27)
Top Overlay:
  circle w0.15: c-24.135,-2.5 r0.125
Mechanical 13:
  lines w0.1: -24.46,2.286 -24.46,-1.6 -23.8,-1.6 -23.8,2.286 ; -21.92,2.286 -21.92,-1.6 -21.26,-1.6 -21.26,2.286 ; -19.38,2.286 -19.38,-1.6 -18.72,-1.6 -18.72,2.286 ; -16.84,2.286 -16.84,-1.6 -16.18,-1.6 -16.18,2.286 ; -14.3,2.286 -14.3,-1.6 -13.64,-1.6 -13.64,2.286 ; -11.76,2.286 -11.76,-1.6 -11.1,-1.6 -11.1,2.286 ; -9.22,2.286 -9.22,-1.6 -8.56,-1.6 -8.56,2.286 ; -6.68,2.286 -6.68,-1.6 -6.02,-1.6 -6.02,2.286 ; -4.14,2.286 -4.14,-1.6 -3.48,-1.6 -3.48,2.286 ; -2.25,4.318 2.225,4.318 ; -1.6,2.286 -1.6,-1.6 -0.94,-1.6 -0.94,2.286 ; 0.94,2.286 0.94,-1.6 1.6,-1.6 1.6,2.286 ; 3.48,2.286 3.48,-1.6 4.14,-1.6 4.14,2.286 ; 6.02,2.286 6.02,-1.6 6.68,-1.6 6.68,2.286 ; 8.56,2.286 8.56,-1.6 9.22,-1.6 9.22,2.286 ; 11.1,2.286 11.1,-1.6 11.76,-1.6 11.76,2.286 ; 13.64,2.286 13.64,-1.6 14.3,-1.6 14.3,2.286 ; 16.18,2.286 16.18,-1.6 16.84,-1.6 16.84,2.286 ; 18.72,2.286 18.72,-1.6 19.38,-1.6 19.38,2.286 ; 21.26,2.286 21.26,-1.6 21.92,-1.6 21.92,2.286 ; 23.8,2.286 23.8,-1.6 24.46,-1.6 24.46,2.286
  lines w0.102: -2.25,4.318 -2.25,10.922 ; 2.25,4.343 2.25,10.922 ; -29.21,2.286 -29.21,10.922 29.21,10.922 29.21,2.286 -29.21,2.286
  lines w0.15: -25.175,10.472 -24.125,8.597 -23.075,10.472 -25.175,10.472
  text "40" at 25.33,0.52 h1.5
  text "39" at 25.33,-2.02 h1.5
  text "1" at -25.83,-2.02 h1.5
  text "2" at -26.33,0.52 h1.5
3D body: height 9.2, standoff -3.2, extent -29.21,-1.598 29.21,10.922

## CN_IDC40LPV [mm] "Connector IDC Low Profile Male Header, Thru-Hole; 40 pin; Vertical; R2.54 mm; Body 58.4 x 9.2 x 9.45 mm (LxWxH)"
height 9.45
pads (40):
  rrect50% 1.65x1.65 hole 1: 1(-24.13,-1.27)
  round 1.65 hole 1: 2(-24.13,1.27) 3(-21.59,-1.27) 4(-21.59,1.27) 5(-19.05,-1.27) 6(-19.05,1.27) 7(-16.51,-1.27) 8(-16.51,1.27) 9(-13.97,-1.27) 10(-13.97,1.27) 11(-11.43,-1.27) 12(-11.43,1.27) 13(-8.89,-1.27) 14(-8.89,1.27) 15(-6.35,-1.27) 16(-6.35,1.27) 17(-3.81,-1.27) 18(-3.81,1.27) 19(-1.27,-1.27) 20(-1.27,1.27) 21(1.27,-1.27) 22(1.27,1.27) 23(3.81,-1.27) 24(3.81,1.27) 25(6.35,-1.27) 26(6.35,1.27) 27(8.89,-1.27) 28(8.89,1.27) 29(11.43,-1.27) 30(11.43,1.27) 31(13.97,-1.27) 32(13.97,1.27) 33(16.51,-1.27) 34(16.51,1.27) 35(19.05,-1.27) 36(19.05,1.27) 37(21.59,-1.27) 38(21.59,1.27) 39(24.13,-1.27) 40(24.13,1.27)
Top Overlay:
  circle w0.15: c-24.128,-5.08 r0.125
  rectangle: -2.05,-4.473 2.05,-3.048
  lines w0.15: -29.21,-4.465 29.21,-4.465 29.21,4.729 -29.21,4.729 -29.21,-4.465
Mechanical 13:
  lines w0.102: -2.159,-4.465 -2.159,-3.802 -28.575,-3.802 -28.575,4.066 28.575,4.066 28.575,-3.802 2.159,-3.802 2.159,-4.463 ; -29.21,-4.463 -29.21,4.726 29.21,4.726 29.21,-4.463 -29.21,-4.463
  text "2" at -26.33,0.52 h1.5
  text "1" at -25.83,-2.02 h1.5
  text "39" at 25.33,-2.02 h1.5
  text "40" at 25.33,0.52 h1.5
3D body: height 9.4, standoff -3.25, extent -29.21,-4.45 29.21,4.75

## CN_IDC50HPSLV [mm] "Connector IDC High Profile Male Header, Thru-Hole; 50pin; Vertical; R2.54 mm; Body 17.78 x 9.2 x 9.45 mm (LxWxH)"
height 9.45
pads (50):
  rrect50% 1.65x1.65 hole 1: 1(-30.48,-1.27)
  round 1.65 hole 1: 2(-30.48,1.27) 3(-27.94,-1.27) 4(-27.94,1.27) 5(-25.4,-1.27) 6(-25.4,1.27) 7(-22.86,-1.27) 8(-22.86,1.27) 9(-20.32,-1.27) 10(-20.32,1.27) 11(-17.78,-1.27) 12(-17.78,1.27) 13(-15.24,-1.27) 14(-15.24,1.27) 15(-12.7,-1.27) 16(-12.7,1.27) 17(-10.16,-1.27) 18(-10.16,1.27) 19(-7.62,-1.27) 20(-7.62,1.27) 21(-5.08,-1.27) 22(-5.08,1.27) 23(-2.54,-1.27) 24(-2.54,1.27) 25(0,-1.27) 26(0,1.27) 27(2.54,-1.27) 28(2.54,1.27) 29(5.08,-1.27) 30(5.08,1.27) 31(7.62,-1.27) 32(7.62,1.27) 33(10.16,-1.27) 34(10.16,1.27) 35(12.7,-1.27) 36(12.7,1.27) 37(15.24,-1.27) 38(15.24,1.27) 39(17.78,-1.27) 40(17.78,1.27) 41(20.32,-1.27) 42(20.32,1.27) 43(22.86,-1.27) 44(22.86,1.27) 45(25.4,-1.27) 46(25.4,1.27) 47(27.94,-1.27) 48(27.94,1.27) 49(30.48,-1.27) 50(30.48,1.27)
Top Overlay:
  circle w0.15: c-30.478,-4.699 r0.125
  rectangle: -2.05,-4.25 2.05,-2.825
  lines w0.15: -41.542,-4.25 -41.542,4.2 41.558,4.2 41.558,-4.25 -41.542,-4.25
Mechanical 13:
  lines w0.1: -40.115,-4.25 -40.115,4.2 ; -40.115,-2.775 -35.215,-2.775 -35.215,2.775 -40.115,2.775 ; 40.115,-4.25 40.115,4.2 ; 40.115,-2.775 35.215,-2.775 35.215,2.775 40.115,2.775
  lines w0.102: -2.159,-4.25 -2.159,-3.2 -34.925,-3.2 -34.925,3.25 34.925,3.25 34.925,-3.2 2.159,-3.2 2.159,-4.25 ; -41.542,-4.25 -41.542,4.2 41.558,4.2 41.558,-4.25 -41.542,-4.25
  text "49" at 31.68,-2.02 h1.5
  text "50" at 31.68,0.52 h1.5
  text "1" at -32.18,-2.02 h1.5
  text "2" at -32.68,0.52 h1.5
3D body: height 14, standoff -2.9, extent -5.38,0.97 -4.78,1.57
3D body: height 14, standoff -2.9, extent -5.38,-1.57 -4.78,-0.97
3D body: height 14, standoff -2.9, extent -7.92,-1.57 -7.32,-0.97
3D body: height 14, standoff -2.9, extent -7.92,0.97 -7.32,1.57
3D body: height 14, standoff -2.9, extent -23.16,0.97 -22.56,1.57
3D body: height 14, standoff -2.9, extent -23.16,-1.57 -22.56,-0.97
3D body: height 14, standoff -2.9, extent -13,0.97 -12.4,1.57
3D body: height 14, standoff -2.9, extent -13,-1.57 -12.4,-0.97
3D body: height 14, standoff -2.9, extent -15.54,-1.57 -14.94,-0.97
3D body: height 14, standoff -2.9, extent -15.54,0.97 -14.94,1.57
3D body: height 14, standoff -2.9, extent -20.62,-1.57 -20.02,-0.97
3D body: height 14, standoff -2.9, extent -20.62,0.97 -20.02,1.57
3D body: height 14, standoff -2.9, extent -18.08,0.97 -17.48,1.57
3D body: height 14, standoff -2.9, extent -18.08,-1.57 -17.48,-0.97
3D body: height 23.59, standoff -2.91, extent -41.542,-4.25 41.558,4.25
3D body: height 14, standoff -2.9, extent -10.46,-1.57 -9.86,-0.97
3D body: height 14, standoff -2.9, extent -10.46,0.97 -9.86,1.57
3D body: height 14, standoff -2.9, extent -2.84,0.97 -2.24,1.57
3D body: height 14, standoff -2.9, extent -2.84,-1.57 -2.24,-0.97
3D body: height 14, standoff -2.9, extent -0.3,0.97 0.3,1.57
3D body: height 14, standoff -2.9, extent -0.3,-1.57 0.3,-0.97
3D body: height 14, standoff -2.9, extent 2.24,-1.57 2.84,-0.97
3D body: height 14, standoff -2.9, extent 2.24,0.97 2.84,1.57
3D body: height 14, standoff -2.9, extent -25.7,0.97 -25.1,1.57
3D body: height 14, standoff -2.9, extent -25.7,-1.57 -25.1,-0.97
3D body: height 14, standoff -2.9, extent -28.24,-1.57 -27.64,-0.97
3D body: height 14, standoff -2.9, extent -28.24,0.97 -27.64,1.57
3D body: height 14, standoff -2.9, extent 7.32,0.97 7.92,1.57
3D body: height 14, standoff -2.9, extent 7.32,-1.57 7.92,-0.97
3D body: height 14, standoff -2.9, extent 4.78,-1.57 5.38,-0.97
3D body: height 14, standoff -2.9, extent 4.78,0.97 5.38,1.57
3D body: height 14, standoff -2.9, extent 12.4,0.97 13,1.57
3D body: height 14, standoff -2.9, extent 12.4,-1.57 13,-0.97
3D body: height 14, standoff -2.9, extent 14.94,-1.57 15.54,-0.97
3D body: height 14, standoff -2.9, extent 14.94,0.97 15.54,1.57
3D body: height 14, standoff -2.9, extent 9.86,0.97 10.46,1.57
3D body: height 14, standoff -2.9, extent 9.86,-1.57 10.46,-0.97
3D body: height 14, standoff -2.9, extent 22.56,-1.57 23.16,-0.97
3D body: height 14, standoff -2.9, extent 22.56,0.97 23.16,1.57
3D body: height 14, standoff -2.9, extent 27.64,0.97 28.24,1.57
3D body: height 14, standoff -2.9, extent 27.64,-1.57 28.24,-0.97
3D body: height 14, standoff -2.9, extent 25.1,-1.57 25.7,-0.97
3D body: height 14, standoff -2.9, extent 25.1,0.97 25.7,1.57
3D body: height 14, standoff -2.9, extent 17.48,0.97 18.08,1.57
3D body: height 14, standoff -2.9, extent 17.48,-1.57 18.08,-0.97
3D body: height 14, standoff -2.9, extent 20.02,-1.57 20.62,-0.97
3D body: height 14, standoff -2.9, extent 20.02,0.97 20.62,1.57

## CN_IDC50LPH [mm] "Connector IDC Low Profile Male Header, Thru-Hole; 50 pin; Hertical; R2.54 mm; Body 50.8 x 9.2 x 8.6 mm (LxWxH)"
height 8.6
pads (50):
  rrect50% 1.65x1.65 hole 1: 1(-30.48,-1.27)
  round 1.65 hole 1: 2(-30.48,1.27) 3(-27.94,-1.27) 4(-27.94,1.27) 5(-25.4,-1.27) 6(-25.4,1.27) 7(-22.86,-1.27) 8(-22.86,1.27) 9(-20.32,-1.27) 10(-20.32,1.27) 11(-17.78,-1.27) 12(-17.78,1.27) 13(-15.24,-1.27) 14(-15.24,1.27) 15(-12.7,-1.27) 16(-12.7,1.27) 17(-10.16,-1.27) 18(-10.16,1.27) 19(-7.62,-1.27) 20(-7.62,1.27) 21(-5.08,-1.27) 22(-5.08,1.27) 23(-2.54,-1.27) 24(-2.54,1.27) 25(0,-1.27) 26(0,1.27) 27(2.54,-1.27) 28(2.54,1.27) 29(5.08,-1.27) 30(5.08,1.27) 31(7.62,-1.27) 32(7.62,1.27) 33(10.16,-1.27) 34(10.16,1.27) 35(12.7,-1.27) 36(12.7,1.27) 37(15.24,-1.27) 38(15.24,1.27) 39(17.78,-1.27) 40(17.78,1.27) 41(20.32,-1.27) 42(20.32,1.27) 43(22.86,-1.27) 44(22.86,1.27) 45(25.4,-1.27) 46(25.4,1.27) 47(27.94,-1.27) 48(27.94,1.27) 49(30.48,-1.27) 50(30.48,1.27)
Top Overlay:
  circle w0.15: c-30.485,-2.5 r0.125
Mechanical 13:
  lines w0.1: -30.81,2.286 -30.81,-1.6 -30.15,-1.6 -30.15,2.286 ; -28.27,2.286 -28.27,-1.6 -27.61,-1.6 -27.61,2.286 ; -25.73,2.286 -25.73,-1.6 -25.07,-1.6 -25.07,2.286 ; -23.19,2.286 -23.19,-1.6 -22.53,-1.6 -22.53,2.286 ; -20.65,2.286 -20.65,-1.6 -19.99,-1.6 -19.99,2.286 ; -18.11,2.286 -18.11,-1.6 -17.45,-1.6 -17.45,2.286 ; -15.57,2.286 -15.57,-1.6 -14.91,-1.6 -14.91,2.286 ; -13.03,2.286 -13.03,-1.6 -12.37,-1.6 -12.37,2.286 ; -10.49,2.286 -10.49,-1.6 -9.83,-1.6 -9.83,2.286 ; -7.95,2.286 -7.95,-1.6 -7.29,-1.6 -7.29,2.286 ; -5.41,2.286 -5.41,-1.6 -4.75,-1.6 -4.75,2.286 ; -2.87,2.286 -2.87,-1.6 -2.21,-1.6 -2.21,2.286 ; -2.25,4.318 2.225,4.318 ; -0.33,2.286 -0.33,-1.6 0.33,-1.6 0.33,2.286 ; 2.21,2.286 2.21,-1.6 2.87,-1.6 2.87,2.286 ; 4.75,2.286 4.75,-1.6 5.41,-1.6 5.41,2.286 ; 7.29,2.286 7.29,-1.6 7.95,-1.6 7.95,2.286 ; 9.83,2.286 9.83,-1.6 10.49,-1.6 10.49,2.286 ; 12.37,2.286 12.37,-1.6 13.03,-1.6 13.03,2.286 ; 14.91,2.286 14.91,-1.6 15.57,-1.6 15.57,2.286 ; 17.45,2.286 17.45,-1.6 18.11,-1.6 18.11,2.286 ; 19.99,2.286 19.99,-1.6 20.65,-1.6 20.65,2.286 ; 22.53,2.286 22.53,-1.6 23.19,-1.6 23.19,2.286 ; 25.07,2.286 25.07,-1.6 25.73,-1.6 25.73,2.286 ; 27.61,2.286 27.61,-1.6 28.27,-1.6 28.27,2.286 ; 30.15,2.286 30.15,-1.6 30.81,-1.6 30.81,2.286
  lines w0.102: -2.25,4.318 -2.25,10.922 ; 2.25,4.343 2.25,10.922 ; -35.56,2.286 35.56,2.286 35.56,10.922 -35.56,10.922 -35.56,2.286
  lines w0.15: -31.525,10.472 -29.425,10.472 -30.475,8.597 -31.525,10.472
  text "2" at -32.68,0.52 h1.5
  text "1" at -32.18,-2.02 h1.5
  text "49" at 31.68,-2.02 h1.5
  text "50" at 31.68,0.52 h1.5
3D body: height 9.2, standoff -3.2, extent -35.66,-1.598 35.66,10.922

## CN_IDC50LPV [mm] "Connector IDC Low Profile Male Header, Thru-Hole; 60 pin; Vertical; R2.54 mm; Body 71.1 x 9.2 x 9.45 mm (LxWxH)"
height 9.45
pads (50):
  rrect50% 1.65x1.65 hole 1: 1(-30.48,-1.27)
  round 1.65 hole 1: 2(-30.48,1.27) 3(-27.94,-1.27) 4(-27.94,1.27) 5(-25.4,-1.27) 6(-25.4,1.27) 7(-22.86,-1.27) 8(-22.86,1.27) 9(-20.32,-1.27) 10(-20.32,1.27) 11(-17.78,-1.27) 12(-17.78,1.27) 13(-15.24,-1.27) 14(-15.24,1.27) 15(-12.7,-1.27) 16(-12.7,1.27) 17(-10.16,-1.27) 18(-10.16,1.27) 19(-7.62,-1.27) 20(-7.62,1.27) 21(-5.08,-1.27) 22(-5.08,1.27) 23(-2.54,-1.27) 24(-2.54,1.27) 25(0,-1.27) 26(0,1.27) 27(2.54,-1.27) 28(2.54,1.27) 29(5.08,-1.27) 30(5.08,1.27) 31(7.62,-1.27) 32(7.62,1.27) 33(10.16,-1.27) 34(10.16,1.27) 35(12.7,-1.27) 36(12.7,1.27) 37(15.24,-1.27) 38(15.24,1.27) 39(17.78,-1.27) 40(17.78,1.27) 41(20.32,-1.27) 42(20.32,1.27) 43(22.86,-1.27) 44(22.86,1.27) 45(25.4,-1.27) 46(25.4,1.27) 47(27.94,-1.27) 48(27.94,1.27) 49(30.48,-1.27) 50(30.48,1.27)
Top Overlay:
  circle w0.15: c-30.478,-5.08 r0.125
  rectangle: -2.1,-4.473 2.1,-3.048
  lines w0.15: -35.56,-4.455 -35.56,4.747 35.56,4.747 35.56,-4.455 -35.56,-4.455
Mechanical 13:
  lines w0.102: -2.2,-4.47 -2.2,-3.792 -34.925,-3.792 -34.925,4.084 34.925,4.084 34.925,-3.792 2.2,-3.792 2.2,-4.47 ; -35.56,-4.452 35.56,-4.452 35.56,4.745 -35.56,4.745 -35.56,-4.452
  text "50" at 31.68,0.52 h1.5
  text "49" at 31.68,-2.02 h1.5
  text "1" at -32.18,-2.02 h1.5
  text "2" at -32.68,0.52 h1.5
3D body: height 9.4, standoff -3.25, extent -35.66,-4.45 35.66,4.75

## CN_IDC60HPSLV [mm] "Connector IDC High Profile Male Header, Thru-Hole; 60pin; Vertical; R2.54 mm; Body 17.78 x 9.2 x 9.45 mm (LxWxH)"
height 9.45
pads (60):
  rrect50% 1.65x1.65 hole 1: 1(-36.83,-1.27)
  round 1.65 hole 1: 2(-36.83,1.27) 3(-34.29,-1.27) 4(-34.29,1.27) 5(-31.75,-1.27) 6(-31.75,1.27) 7(-29.21,-1.27) 8(-29.21,1.27) 9(-26.67,-1.27) 10(-26.67,1.27) 11(-24.13,-1.27) 12(-24.13,1.27) 13(-21.59,-1.27) 14(-21.59,1.27) 15(-19.05,-1.27) 16(-19.05,1.27) 17(-16.51,-1.27) 18(-16.51,1.27) 19(-13.97,-1.27) 20(-13.97,1.27) 21(-11.43,-1.27) 22(-11.43,1.27) 23(-8.89,-1.27) 24(-8.89,1.27) 25(-6.35,-1.27) 26(-6.35,1.27) 27(-3.81,-1.27) 28(-3.81,1.27) 29(-1.27,-1.27) 30(-1.27,1.27) 31(1.27,-1.27) 32(1.27,1.27) 33(3.81,-1.27) 34(3.81,1.27) 35(6.35,-1.27) 36(6.35,1.27) 37(8.89,-1.27) 38(8.89,1.27) 39(11.43,-1.27) 40(11.43,1.27) 41(13.97,-1.27) 42(13.97,1.27) 43(16.51,-1.27) 44(16.51,1.27) 45(19.05,-1.27) 46(19.05,1.27) 47(21.59,-1.27) 48(21.59,1.27) 49(24.13,-1.27) 50(24.13,1.27) 51(26.67,-1.27) 52(26.67,1.27) 53(29.21,-1.27) 54(29.21,1.27) 55(31.75,-1.27) 56(31.75,1.27) 57(34.29,-1.27) 58(34.29,1.27) 59(36.83,-1.27) 60(36.83,1.27)
Top Overlay:
  circle w0.15: c-36.955,-4.445 r0.125
  rectangle: -2.05,-4.25 2.05,-2.825
  lines w0.15: -47.892,-4.25 47.908,-4.25 47.908,4.2 -47.892,4.2 -47.892,-4.25
Mechanical 13:
  lines w0.1: -46.465,-4.25 -46.465,4.2 ; -46.465,-2.775 -41.565,-2.775 -41.565,2.775 -46.465,2.775 ; 46.465,-4.25 46.465,4.2 ; 46.465,-2.775 41.565,-2.775 41.565,2.775 46.465,2.775
  lines w0.102: -2.159,-4.25 -2.159,-3.2 -41.275,-3.2 -41.275,3.25 41.275,3.25 41.275,-3.2 2.159,-3.2 2.159,-4.25 ; -47.892,-4.25 47.908,-4.25 47.908,4.2 -47.892,4.2 -47.892,-4.25
  text "2" at -39.03,0.52 h1.5
  text "1" at -38.53,-2.02 h1.5
  text "60" at 38.03,0.52 h1.5
  text "59" at 38.03,-2.02 h1.5
3D body: height 14, standoff -2.9, extent 28.91,-1.57 29.51,-0.97
3D body: height 14, standoff -2.9, extent 28.91,0.97 29.51,1.57
3D body: height 14, standoff -2.9, extent 33.99,0.97 34.59,1.57
3D body: height 14, standoff -2.9, extent 33.99,-1.57 34.59,-0.97
3D body: height 14, standoff -2.9, extent 31.45,-1.57 32.05,-0.97
3D body: height 14, standoff -2.9, extent 31.45,0.97 32.05,1.57
3D body: height 14, standoff -2.9, extent 23.83,0.97 24.43,1.57
3D body: height 14, standoff -2.9, extent 23.83,-1.57 24.43,-0.97
3D body: height 14, standoff -2.9, extent 26.37,-1.57 26.97,-0.97
3D body: height 14, standoff -2.9, extent 26.37,0.97 26.97,1.57
3D body: height 14, standoff -2.9, extent 13.67,0.97 14.27,1.57
3D body: height 14, standoff -2.9, extent 13.67,-1.57 14.27,-0.97
3D body: height 14, standoff -2.9, extent 11.13,-1.57 11.73,-0.97
3D body: height 14, standoff -2.9, extent 11.13,0.97 11.73,1.57
3D body: height 14, standoff -2.9, extent 18.75,0.97 19.35,1.57
3D body: height 14, standoff -2.9, extent 18.75,-1.57 19.35,-0.97
3D body: height 14, standoff -2.9, extent 21.29,-1.57 21.89,-0.97
3D body: height 14, standoff -2.9, extent 21.29,0.97 21.89,1.57
3D body: height 14, standoff -2.9, extent 16.21,0.97 16.81,1.57
3D body: height 14, standoff -2.9, extent 16.21,-1.57 16.81,-0.97
3D body: height 14, standoff -2.9, extent 3.51,-1.57 4.11,-0.97
3D body: height 14, standoff -2.9, extent 3.51,0.97 4.11,1.57
3D body: height 14, standoff -2.9, extent 8.59,0.97 9.19,1.57
3D body: height 14, standoff -2.9, extent 8.59,-1.57 9.19,-0.97
3D body: height 14, standoff -2.9, extent 6.05,-1.57 6.65,-0.97
3D body: height 14, standoff -2.9, extent 6.05,0.97 6.65,1.57
3D body: height 14, standoff -2.9, extent -1.57,0.97 -0.97,1.57
3D body: height 14, standoff -2.9, extent -1.57,-1.57 -0.97,-0.97
3D body: height 14, standoff -2.9, extent 0.97,-1.57 1.57,-0.97
3D body: height 14, standoff -2.9, extent 0.97,0.97 1.57,1.57
3D body: height 14, standoff -2.9, extent -34.59,0.97 -33.99,1.57
3D body: height 14, standoff -2.9, extent -34.59,-1.57 -33.99,-0.97
3D body: height 14, standoff -2.9, extent -32.05,-1.57 -31.45,-0.97
3D body: height 14, standoff -2.9, extent -32.05,0.97 -31.45,1.57
3D body: height 14, standoff -2.9, extent -4.11,0.97 -3.51,1.57
3D body: height 14, standoff -2.9, extent -4.11,-1.57 -3.51,-0.97
3D body: height 14, standoff -2.9, extent -6.65,-1.57 -6.05,-0.97
3D body: height 14, standoff -2.9, extent -6.65,0.97 -6.05,1.57
3D body: height 14, standoff -2.9, extent -9.19,-1.57 -8.59,-0.97
3D body: height 14, standoff -2.9, extent -9.19,0.97 -8.59,1.57
3D body: height 14, standoff -2.9, extent -16.81,0.97 -16.21,1.57
3D body: height 14, standoff -2.9, extent -16.81,-1.57 -16.21,-0.97
3D body: height 23.59, standoff -2.91, extent -47.892,-4.25 47.908,4.25
3D body: height 14, standoff -2.9, extent -24.43,-1.57 -23.83,-0.97
3D body: height 14, standoff -2.9, extent -24.43,0.97 -23.83,1.57
3D body: height 14, standoff -2.9, extent -26.97,0.97 -26.37,1.57
3D body: height 14, standoff -2.9, extent -26.97,-1.57 -26.37,-0.97
3D body: height 14, standoff -2.9, extent -21.89,0.97 -21.29,1.57
3D body: height 14, standoff -2.9, extent -21.89,-1.57 -21.29,-0.97
3D body: height 14, standoff -2.9, extent -19.35,-1.57 -18.75,-0.97
3D body: height 14, standoff -2.9, extent -19.35,0.97 -18.75,1.57
3D body: height 14, standoff -2.9, extent -29.51,-1.57 -28.91,-0.97
3D body: height 14, standoff -2.9, extent -29.51,0.97 -28.91,1.57
3D body: height 14, standoff -2.9, extent -14.27,0.97 -13.67,1.57
3D body: height 14, standoff -2.9, extent -14.27,-1.57 -13.67,-0.97
3D body: height 14, standoff -2.9, extent -11.73,-1.57 -11.13,-0.97
3D body: height 14, standoff -2.9, extent -11.73,0.97 -11.13,1.57